# Altium schematic symbol library MCP73812T-420I_OT.SchLib: 1 symbol
Pins are listed as number, name and electrical type; pins without a type are passive.

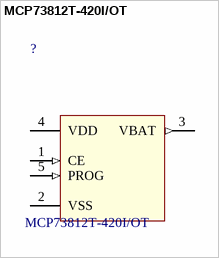
[diagram p0: symbol MCP73812T-420I/OT]

## MCP73812T-420I/OT
designator ?
Sot23 Simple Low-Cost Integrated Li-Ion/Li-Poly Charge Mgnt Controller, 4.2v Vre; MF: Microchip; MP: MCP73812T-420I/OT; Package: SOT-23 Microchip; Availability: Good; SnapEDA_Link: https://www.snapeda.com/parts/MCP73812T-420I/OT/Microchip/view-part/?ref=snap; Price: 0.49 USD; Value: *
footprint SOT95P270X145-5N
pins: 1 CE (in), 2 VSS (power), 3 VBAT (out), 4 VDD (power), 5 PROG (in)